# EAGLE library part 1473005-4 (library SamacSys_Parts)
DIMM Connectors DDR2 SODIMM 200P STANDARD HOUSING Source: Datasheet <https://www.te.com/commerce/DocumentDelivery/DDEController?Action=showdoc&DocId=Customer Drawing1473005J3pdfEnglishENG_CD_1473005_J3.pdf1473005-4>
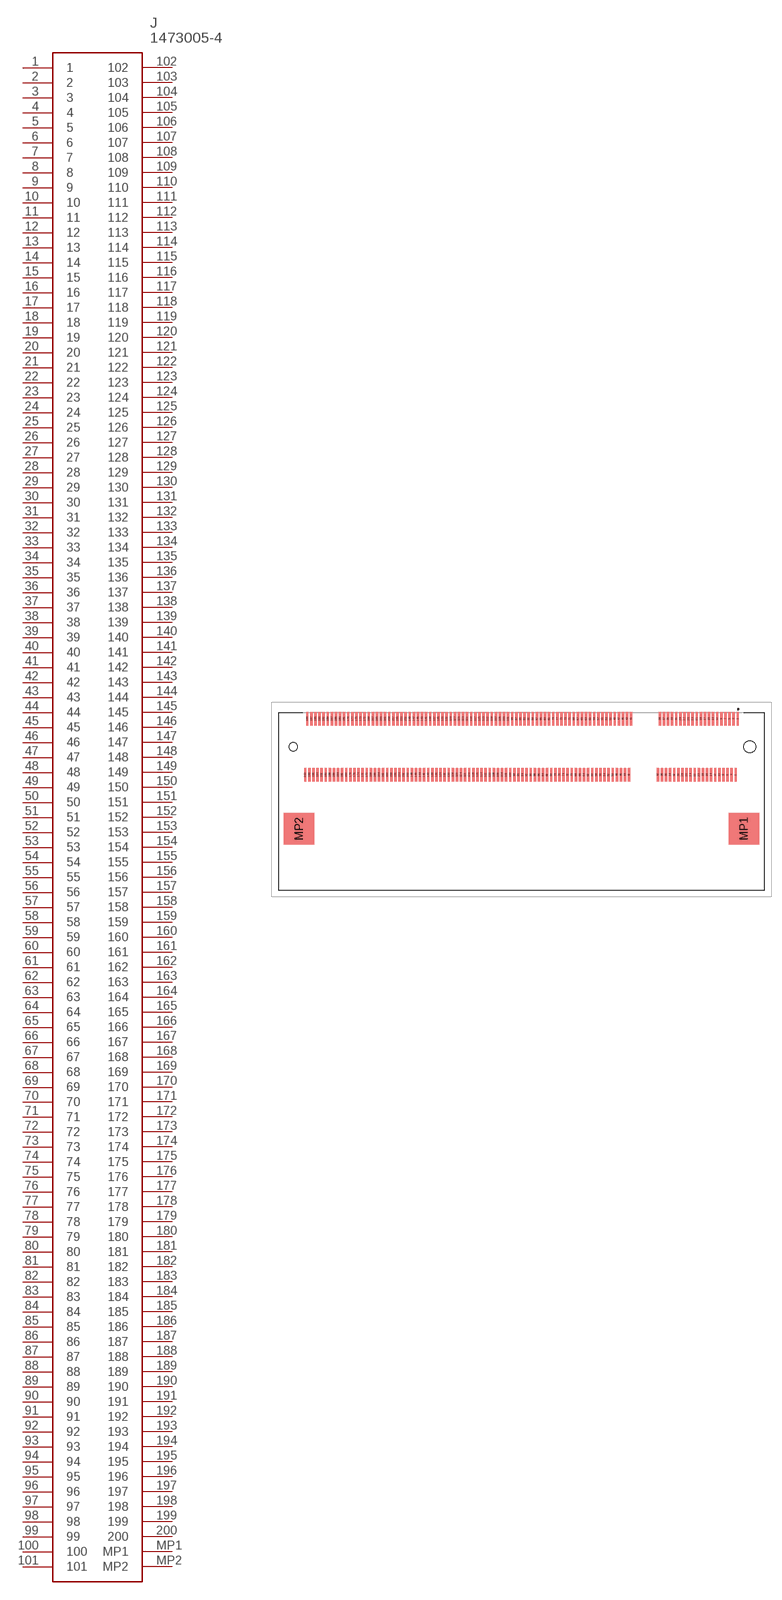
[diagram p132: symbol with the pads of 14730054; footprint 14730054]

Designator prefix J

## 1473005-4 (DESCRIPTION: DIMM Connectors DDR2 SODIMM 200P STANDARD HOUSING; HEIGHT: 5.2mm; MANUFACTURER_NAME: TE Connectivity; MANUFACTURER_PART_NUMBER: 1473005-4; MOUSER_PART_NUMBER: 571-1473005-4; MOUSER_PRICE-STOCK: https://www.mouser.co.uk/ProductDetail/TE-Connectivity/1473005-4?qs=VZ9FDhhp7Sl6t6qwUOr3aA%3D%3D)  [14730054]
1  1
2  2
3  3
4  4
5  5
6  6
7  7
8  8
9  9
10  10
11  11
12  12
13  13
14  14
15  15
16  16
17  17
18  18
19  19
20  20
21  21
22  22
23  23
24  24
25  25
26  26
27  27
28  28
29  29
30  30
31  31
32  32
33  33
34  34
35  35
36  36
37  37
38  38
39  39
40  40
41  41
42  42
43  43
44  44
45  45
46  46
47  47
48  48
49  49
50  50
51  51
52  52
53  53
54  54
55  55
56  56
57  57
58  58
59  59
60  60
61  61
62  62
63  63
64  64
65  65
66  66
67  67
68  68
69  69
70  70
71  71
72  72
73  73
74  74
75  75
76  76
77  77
78  78
79  79
80  80
81  81
82  82
83  83
84  84
85  85
86  86
87  87
88  88
89  89
90  90
91  91
92  92
93  93
94  94
95  95
96  96
97  97
98  98
99  99
100  100
101  101
102  102
103  103
104  104
105  105
106  106
107  107
108  108
109  109
110  110
111  111
112  112
113  113
114  114
115  115
116  116
117  117
118  118
119  119
120  120
121  121
122  122
123  123
124  124
125  125
126  126
127  127
128  128
129  129
130  130
131  131
132  132
133  133
134  134
135  135
136  136
137  137
138  138
139  139
140  140
141  141
142  142
143  143
144  144
145  145
146  146
147  147
148  148
149  149
150  150
151  151
152  152
153  153
154  154
155  155
156  156
157  157
158  158
159  159
160  160
161  161
162  162
163  163
164  164
165  165
166  166
167  167
168  168
169  169
170  170
171  171
172  172
173  173
174  174
175  175
176  176
177  177
178  178
179  179
180  180
181  181
182  182
183  183
184  184
185  185
186  186
187  187
188  188
189  189
190  190
191  191
192  192
193  193
194  194
195  195
196  196
197  197
198  198
199  199
200  200
MP1  MP1
MP2  MP2

## Footprint 14730054 (pad centres in mm)
1473005-4-3
smd 0.35 x 2: 1 31.65,12.1; 2 31.35,3.9; 3 31.05,12.1; 4 30.75,3.9; 5 30.45,12.1; 6 30.15,3.9; 7 29.85,12.1; 8 29.55,3.9; 9 29.25,12.1; 10 28.95,3.9; 11 28.65,12.1; 12 28.35,3.9; 13 28.05,12.1; 14 27.75,3.9; 15 27.45,12.1; 16 27.15,3.9; 17 26.85,12.1; 18 26.55,3.9; 19 26.25,12.1; 20 25.95,3.9; 21 25.65,12.1; 22 25.35,3.9; 23 25.05,12.1; 24 24.75,3.9; 25 24.45,12.1; 26 24.15,3.9; 27 23.85,12.1; 28 23.55,3.9; 29 23.25,12.1; 30 22.95,3.9; 31 22.65,12.1; 32 22.35,3.9; 33 22.05,12.1; 34 21.75,3.9; 35 21.45,12.1; 36 21.15,3.9; 37 20.85,12.1; 38 20.55,3.9; 39 20.25,12.1; 40 19.95,3.9; 41 16.05,12.1; 42 15.75,3.9; 43 15.45,12.1; 44 15.15,3.9; 45 14.85,12.1; 46 14.55,3.9; 47 14.25,12.1; 48 13.95,3.9; 49 13.65,12.1; 50 13.35,3.9; 51 13.05,12.1; 52 12.75,3.9; 53 12.45,12.1; 54 12.15,3.9; 55 11.85,12.1; 56 11.55,3.9; 57 11.25,12.1; 58 10.95,3.9; 59 10.65,12.1; 60 10.35,3.9; 61 10.05,12.1; 62 9.75,3.9; 63 9.45,12.1; 64 9.15,3.9; 65 8.85,12.1; 66 8.55,3.9; 67 8.25,12.1; 68 7.95,3.9; 69 7.65,12.1; 70 7.35,3.9; 71 7.05,12.1; 72 6.75,3.9; 73 6.45,12.1; 74 6.15,3.9; 75 5.85,12.1; 76 5.55,3.9; 77 5.25,12.1; 78 4.95,3.9; 79 4.65,12.1; 80 4.35,3.9; 81 4.05,12.1; 82 3.75,3.9; 83 3.45,12.1; 84 3.15,3.9; 85 2.85,12.1; 86 2.55,3.9; 87 2.25,12.1; 88 1.95,3.9; 89 1.65,12.1; 90 1.35,3.9; 91 1.05,12.1; 92 0.75,3.9; 93 0.45,12.1; 94 0.15,3.9; 95 -0.15,12.1; 96 -0.45,3.9; 97 -0.75,12.1; 98 -1.05,3.9; 99 -1.35,12.1; 100 -1.65,3.9; 101 -1.95,12.1; 102 -2.25,3.9; 103 -2.55,12.1; 104 -2.85,3.9; 105 -3.15,12.1; 106 -3.45,3.9; 107 -3.75,12.1; 108 -4.05,3.9; 109 -4.35,12.1; 110 -4.65,3.9; 111 -4.95,12.1; 112 -5.25,3.9; 113 -5.55,12.1; 114 -5.85,3.9; 115 -6.15,12.1; 116 -6.45,3.9; 117 -6.75,12.1; 118 -7.05,3.9; 119 -7.35,12.1; 120 -7.65,3.9; 121 -7.95,12.1; 122 -8.25,3.9; 123 -8.55,12.1; 124 -8.85,3.9; 125 -9.15,12.1; 126 -9.45,3.9; 127 -9.75,12.1; 128 -10.05,3.9; 129 -10.35,12.1; 130 -10.65,3.9; 131 -10.95,12.1; 132 -11.25,3.9; 133 -11.55,12.1; 134 -11.85,3.9; 135 -12.15,12.1; 136 -12.45,3.9; 137 -12.75,12.1; 138 -13.05,3.9; 139 -13.35,12.1; 140 -13.65,3.9; 141 -13.95,12.1; 142 -14.25,3.9; 143 -14.55,12.1; 144 -14.85,3.9; 145 -15.15,12.1; 146 -15.45,3.9; 147 -15.75,12.1; 148 -16.05,3.9; 149 -16.35,12.1; 150 -16.65,3.9; 151 -16.95,12.1; 152 -17.25,3.9; 153 -17.55,12.1; 154 -17.85,3.9; 155 -18.15,12.1; 156 -18.45,3.9; 157 -18.75,12.1; 158 -19.05,3.9; 159 -19.35,12.1; 160 -19.65,3.9; 161 -19.95,12.1; 162 -20.25,3.9; 163 -20.55,12.1; 164 -20.85,3.9; 165 -21.15,12.1; 166 -21.45,3.9; 167 -21.75,12.1; 168 -22.05,3.9; 169 -22.35,12.1; 170 -22.65,3.9; 171 -22.95,12.1; 172 -23.25,3.9; 173 -23.55,12.1; 174 -23.85,3.9; 175 -24.15,12.1; 176 -24.45,3.9; 177 -24.75,12.1; 178 -25.05,3.9; 179 -25.35,12.1; 180 -25.65,3.9; 181 -25.95,12.1; 182 -26.25,3.9; 183 -26.55,12.1; 184 -26.85,3.9; 185 -27.15,12.1; 186 -27.45,3.9; 187 -27.75,12.1; 188 -28.05,3.9; 189 -28.35,12.1; 190 -28.65,3.9; 191 -28.95,12.1; 192 -29.25,3.9; 193 -29.55,12.1; 194 -29.85,3.9; 195 -30.15,12.1; 196 -30.45,3.9; 197 -30.75,12.1; 198 -31.05,3.9; 199 -31.35,12.1; 200 -31.65,3.9
smd 4.5 x 4.6: MP1 32.55,-4; MP2 -32.55,-4
hole 1.7 at 33.4,8
hole 1.2 at -33.4,8